# EAGLE library part LC4128ZE-7TN144I (library CPLD)
IC CPLD 128MC 7.5NS 144TQFP Manufacturer's datasheet <http://www.latticesemi.com/~/media/LatticeSemi/Documents/Solutions/Packaging%20Solutions/ispMACH4000ZE%20Family%20Data%20Sheet1022.pdf>
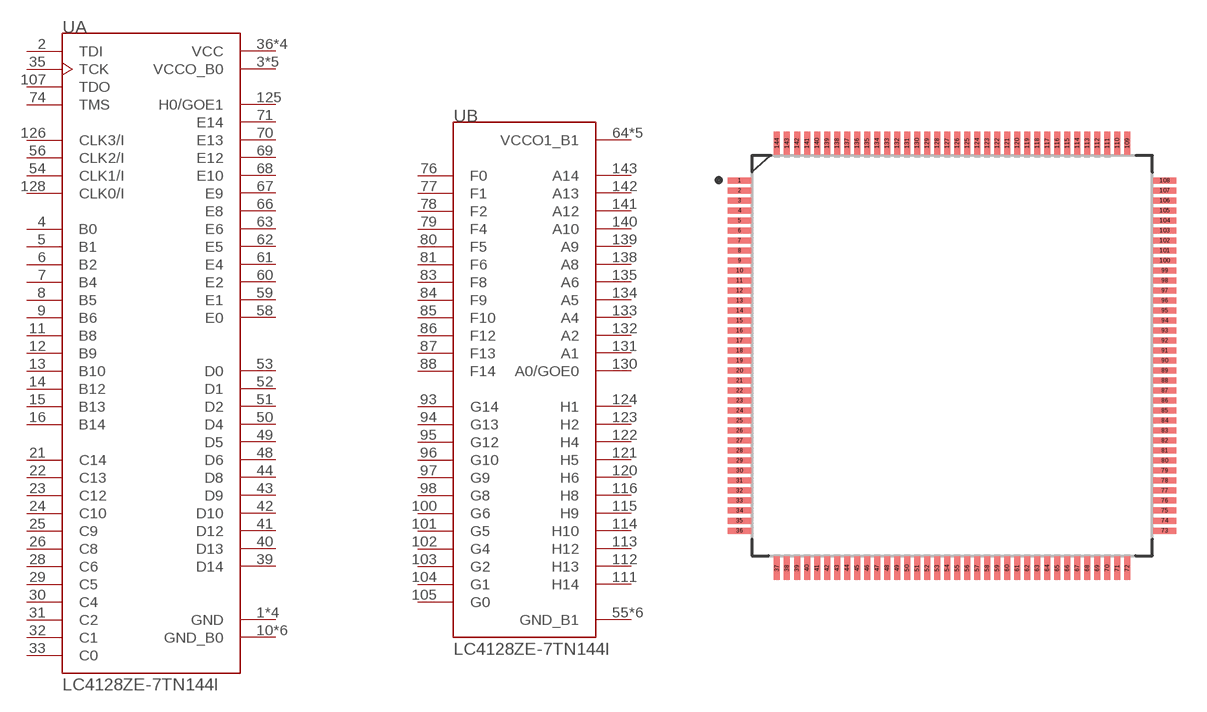
[diagram p10: symbol with the pads of TQFP144; footprint TQFP144]

Designator prefix U; gates A=LC4128ZE-7TN144I_A B=LC4128ZE-7TN144I_B

## LC4128ZE-7TN144I (CREATED_BY: PCBLayout.com; DIGIKEY_PARTNO: 220-1024-ND; MANUFACTURER: Lattice Semiconductor Corporation; MPN: LC4128ZE-7TN144I; PACKAGE: TQFP-144)  [TQFP144]
1  A:GND  pwr
2  A:TDI  in
3  A:VCCO_B0  pwr
4  A:B0
5  A:B1
6  A:B2
7  A:B4
8  A:B5
9  A:B6
10  A:GND_B0  pwr
11  A:B8
12  A:B9
13  A:B10
14  A:B12
15  A:B13
16  A:B14
18  A:GND_B0  pwr
19  A:VCCO_B0  pwr
21  A:C14
22  A:C13
23  A:C12
24  A:C10
25  A:C9
26  A:C8
27  A:GND_B0  pwr
28  A:C6
29  A:C5
30  A:C4
31  A:C2
32  A:C1
33  A:C0
34  A:VCCO_B0  pwr
35  A:TCK  in
36  A:VCC  pwr
37  A:GND  pwr
39  A:D14
40  A:D13
41  A:D12
42  A:D10
43  A:D9
44  A:D8
46  A:GND_B0  pwr
47  A:VCCO_B0  pwr
48  A:D6
49  A:D5
50  A:D4
51  A:D2
52  A:D1
53  A:D0
54  A:CLK1/I  pas
55  B:GND_B1  pwr
56  A:CLK2/I  pas
57  A:VCC  pwr
58  A:E0
59  A:E1
60  A:E2
61  A:E4
62  A:E5
63  A:E6
64  B:VCCO1_B1  pwr
65  B:GND_B1  pwr
66  A:E8
67  A:E9
68  A:E10
69  A:E12
70  A:E13
71  A:E14
73  A:GND  pwr
74  A:TMS
75  B:VCCO1_B1  pwr
76  B:F0
77  B:F1
78  B:F2
79  B:F4
80  B:F5
81  B:F6
82  B:GND_B1  pwr
83  B:F8
84  B:F9
85  B:F10
86  B:F12
87  B:F13
88  B:F14
90  B:GND_B1  pwr
91  B:VCCO1_B1  pwr
93  B:G14
94  B:G13
95  B:G12
96  B:G10
97  B:G9
98  B:G8
99  B:GND_B1  pwr
100  B:G6
101  B:G5
102  B:G4
103  B:G2
104  B:G1
105  B:G0
106  B:VCCO1_B1  pwr
107  A:TDO  out
108  A:VCC  pwr
109  A:GND  pwr
111  B:H14
112  B:H13
113  B:H12
114  B:H10
115  B:H9
116  B:H8
118  B:GND_B1  pwr
119  B:VCCO1_B1  pwr
120  B:H6
121  B:H5
122  B:H4
123  B:H2
124  B:H1
125  A:H0/GOE1
126  A:CLK3/I  pas
127  A:GND_B0  pwr
128  A:CLK0/I  pas
129  A:VCC  pwr
130  B:A0/GOE0
131  B:A1
132  B:A2
133  B:A4
134  B:A5
135  B:A6
136  A:VCCO_B0  pwr
137  A:GND_B0  pwr
138  B:A8
139  B:A9
140  B:A10
141  B:A12
142  B:A13
143  B:A14

## Footprint TQFP144 (pad centres in mm)
smd 1.17 x 0.3: 1 -10.62,8.75; 2 -10.62,8.25; 3 -10.62,7.75; 4 -10.62,7.25; 5 -10.62,6.75; 6 -10.62,6.25; 7 -10.62,5.75; 8 -10.62,5.25; 9 -10.62,4.75; 10 -10.62,4.25; 11 -10.62,3.75; 12 -10.62,3.25; 13 -10.62,2.75; 14 -10.62,2.25; 15 -10.62,1.75; 16 -10.62,1.25; 17 -10.62,0.75; 18 -10.62,0.25; 19 -10.62,-0.25; 20 -10.62,-0.75; 21 -10.62,-1.25; 22 -10.62,-1.75; 23 -10.62,-2.25; 24 -10.62,-2.75; 25 -10.62,-3.25; 26 -10.62,-3.75; 27 -10.62,-4.25; 28 -10.62,-4.75; 29 -10.62,-5.25; 30 -10.62,-5.75; 31 -10.62,-6.25; 32 -10.62,-6.75; 33 -10.62,-7.25; 34 -10.62,-7.75; 35 -10.62,-8.25; 36 -10.62,-8.75; 73 10.62,-8.75; 74 10.62,-8.25; 75 10.62,-7.75; 76 10.62,-7.25; 77 10.62,-6.75; 78 10.62,-6.25; 79 10.62,-5.75; 80 10.62,-5.25; 81 10.62,-4.75; 82 10.62,-4.25; 83 10.62,-3.75; 84 10.62,-3.25; 85 10.62,-2.75; 86 10.62,-2.25; 87 10.62,-1.75; 88 10.62,-1.25; 89 10.62,-0.75; 90 10.62,-0.25; 91 10.62,0.25; 92 10.62,0.75; 93 10.62,1.25; 94 10.62,1.75; 95 10.62,2.25; 96 10.62,2.75; 97 10.62,3.25; 98 10.62,3.75; 99 10.62,4.25; 100 10.62,4.75; 101 10.62,5.25; 102 10.62,5.75; 103 10.62,6.25; 104 10.62,6.75; 105 10.62,7.25; 106 10.62,7.75; 107 10.62,8.25; 108 10.62,8.75
smd 0.3 x 1.17: 37 -8.75,-10.62; 38 -8.25,-10.62; 39 -7.75,-10.62; 40 -7.25,-10.62; 41 -6.75,-10.62; 42 -6.25,-10.62; 43 -5.75,-10.62; 44 -5.25,-10.62; 45 -4.75,-10.62; 46 -4.25,-10.62; 47 -3.75,-10.62; 48 -3.25,-10.62; 49 -2.75,-10.62; 50 -2.25,-10.62; 51 -1.75,-10.62; 52 -1.25,-10.62; 53 -0.75,-10.62; 54 -0.25,-10.62; 55 0.25,-10.62; 56 0.75,-10.62; 57 1.25,-10.62; 58 1.75,-10.62; 59 2.25,-10.62; 60 2.75,-10.62; 61 3.25,-10.62; 62 3.75,-10.62; 63 4.25,-10.62; 64 4.75,-10.62; 65 5.25,-10.62; 66 5.75,-10.62; 67 6.25,-10.62; 68 6.75,-10.62; 69 7.25,-10.62; 70 7.75,-10.62; 71 8.25,-10.62; 72 8.75,-10.62; 109 8.75,10.62; 110 8.25,10.62; 111 7.75,10.62; 112 7.25,10.62; 113 6.75,10.62; 114 6.25,10.62; 115 5.75,10.62; 116 5.25,10.62; 117 4.75,10.62; 118 4.25,10.62; 119 3.75,10.62; 120 3.25,10.62; 121 2.75,10.62; 122 2.25,10.62; 123 1.75,10.62; 124 1.25,10.62; 125 0.75,10.62; 126 0.25,10.62; 127 -0.25,10.62; 128 -0.75,10.62; 129 -1.25,10.62; 130 -1.75,10.62; 131 -2.25,10.62; 132 -2.75,10.62; 133 -3.25,10.62; 134 -3.75,10.62; 135 -4.25,10.62; 136 -4.75,10.62; 137 -5.25,10.62; 138 -5.75,10.62; 139 -6.25,10.62; 140 -6.75,10.62; 141 -7.25,10.62; 142 -7.75,10.62; 143 -8.25,10.62; 144 -8.75,10.62